# EAGLE library part SPARKFUN-IC-CONVERSION_NAU7802 (library 154N_NAU7802)
24-bit load cell conversion IC with I2C interface in SOIC-16 package. Similar to HX711 but with true I2C interface.
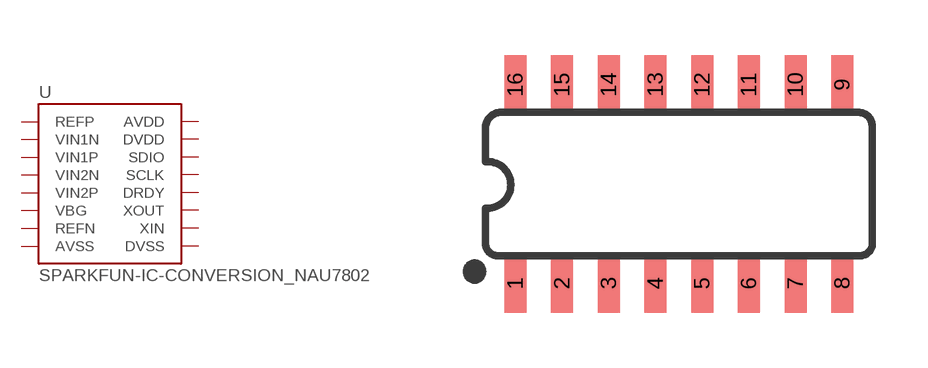
[diagram p2: symbol with the pads of SPARKFUN-IC-CONVERSION_SO16; footprint SPARKFUN-IC-CONVERSION_SO16]

Designator prefix U

## SPARKFUN-IC-CONVERSION_NAU7802SOIC (PROD_ID: IC-14299)  [SPARKFUN-IC-CONVERSION_SO16]
1  REFP
2  VIN1N
3  VIN1P
4  VIN2N
5  VIN2P
6  VBG
7  REFN
8  AVSS
9  DVSS
10  XIN
11  XOUT
12  DRDY
13  SCLK
14  SDIO
15  DVDD
16  AVDD

## Footprint SPARKFUN-IC-CONVERSION_SO16 (pad centres in mm)
SOIC -16 Specifications: Pin count: 16 Area: 0.15 width Example device(s): HX711
smd 0.6 x 1.6: 1 -4.445,-2.7; 2 -3.175,-2.7; 3 -1.905,-2.7; 4 -0.635,-2.7; 5 0.635,-2.7; 6 1.905,-2.7; 7 3.175,-2.7; 8 4.445,-2.7; 9 4.445,2.7; 10 3.175,2.7; 11 1.905,2.7; 12 0.635,2.7; 13 -0.635,2.7; 14 -1.905,2.7; 15 -3.175,2.7; 16 -4.445,2.7